# Altium footprint library SMD Resistors.PcbLib: 5 footprints
Each footprint in its own frame and in the unit in brackets; x right, y up, seen from the top. Pads: shape width x height; smd on the part's side, far side on the other; paste and mask are expansions set on the pad; w line width, h text height; cw(c..) or ccw(c..) is an arc to the next point about the centre after c.
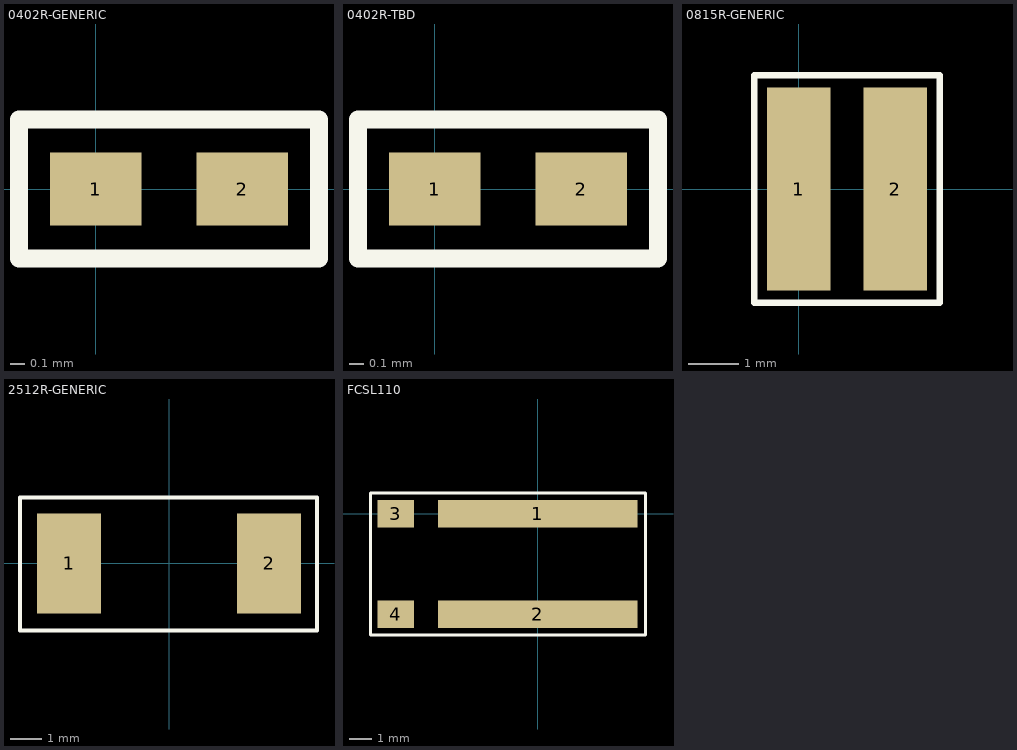
[diagram p0: the footprints below, top view; thin cyan lines are the x and y axes]

## 0402R-GENERIC [mil]
pads (2):
  rect 25x20 smd: 1(0,0) 2(40,0)
Top Overlay:
  lines w5: -21,-19 -21,19 61,19 61,-19 -21,-19
3D body: height 13, standoff 0, extent -5.5,-10 3.5,10
3D body: height 14, standoff 0, extent 37,-10 46,10
3D body: height 13, standoff 12, extent 3.5,-8 43.5,8
3D body: height 12, standoff 0, extent -4.5,-9.5 41,9.5

## 0402R-TBD [mil]
pads (2):
  rect 25x20 smd: 1(0,0) 2(40,0)
Top Overlay:
  lines w5: -21,-19 -21,19 61,19 61,-19 -21,-19
3D body: height 14, standoff 13, extent 11.5,-2.5 16.5,5.5
3D body: height 14, standoff 13, extent 13.5,-4.5 14.5,-3.5
3D body: height 14, standoff 13, extent 24.5,-2.5 29.5,5.5
3D body: height 14, standoff 13, extent 26.5,-4.5 27.5,-3.5
3D body: height 14, standoff 13, extent 20,-4.5 21,-3.5
3D body: height 13, standoff 0, extent -5.5,-10 3.5,10
3D body: height 14, standoff 0, extent 37,-10 46,10
3D body: height 13, standoff 12, extent 3.5,-8 43.5,8
3D body: height 12, standoff 0, extent -4.5,-9 41,9
3D body: height 14, standoff 13, extent 18,-2.5 23,5.5

## 0815R-GENERIC [mil] "0815 RESISTOR 1 WATT"
pads (2):
  rect 50x160 smd: 1(0,0) 2(76,0)
Top Overlay:
  lines w5: -24.99,-89.43 110.99,-89.43 ; 110.99,-89.43 -34.99,-89.43 -34.99,0 -34.99,89.43 110.99,89.43 110.99,-89.43
3D body: height 19, standoff 0, extent -13,-78 11,78
3D body: height 19, standoff 0, extent 71,-78 94.75,78
3D body: height 19, standoff 18, extent 11,-75 71,75
3D body: height 18, standoff 0, extent 8,-77.5 72,77.5

## 2512R-GENERIC [mil]
pads (2):
  rect 80x125 smd: 1(-125,0) 2(125,0)
Top Overlay:
  lines w5: -186.32,-84 185.04,-84 185.04,82.68 -186.32,82.68 -186.32,0 -186.32,-84
3D body: height 18, standoff 0, extent -137,-60.5 134.5,61
3D body: height 19, standoff 18, extent -115,-55.5 112.5,56.5
3D body: height 19, standoff 0, extent 112.5,-60.5 136,61
3D body: height 19, standoff 0, extent -139,-60.5 -115,61

## FCSL110 [mm] "Kelvin contact power resistor smd"
pads (4):
  rect 8.7x1.2 smd: 1(0,0) 2(0,-4.4)
  rect 1.6x1.2 smd: 3(-6.2,0) 4(-6.2,-4.4)
Top Overlay:
  lines w0.127: -7.3,-5.3 -7.3,0.9 4.7,0.9 4.7,-5.3 -7.3,-5.3
3D body: height 0.69, standoff 0.05, extent -5,-3.8 0.3,-2.8
3D body: height 0.69, standoff 0, extent -4.2,-4.902 4.1,-4.2
3D body: height 0.69, standoff 0, extent -6.8,-4.9 -5.6,-4.2
3D body: height 0.64, standoff 0.05, extent -6.9,-4.8 4.2,0.3
3D body: height 0.66, standoff 0.64, extent -6.7,-4.4 4,-0.1
3D body: height 0.69, standoff 0, extent -6.8,-0.3 -5.6,0.403
3D body: height 0.69, standoff 0, extent -4.2,-0.3 4.1,0.402